# Altium footprint library FE2.PcbLib: 11 footprints
Each footprint in its own frame and in the unit in brackets; x right, y up, seen from the top. Pads: shape width x height; smd on the part's side, far side on the other; paste and mask are expansions set on the pad; w line width, h text height; cw(c..) or ccw(c..) is an arc to the next point about the centre after c.
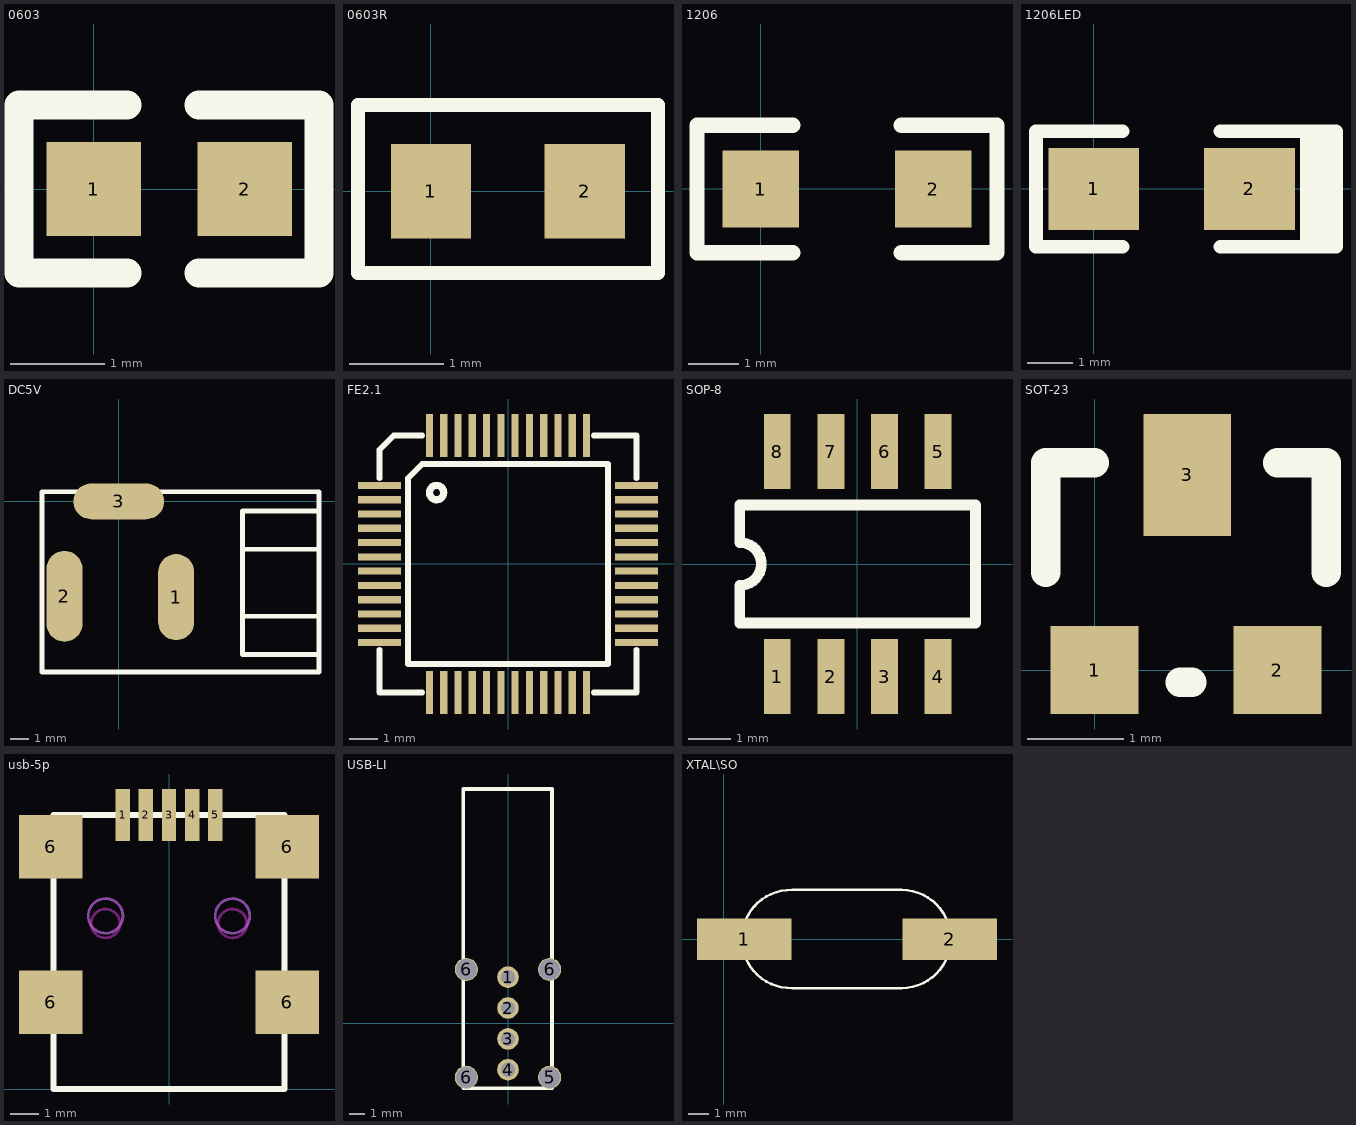
[diagram p0: the footprints below, top view; thin cyan lines are the x and y axes]

## 0603 [mm]
pads (2):
  rect 1x1 smd: 1(0,0) 2(1.6,0)
Top Overlay:
  lines w0.305: 0.354,-0.889 -0.789,-0.889 -0.789,0.889 0.354,0.889 ; 1.116,-0.889 2.386,-0.889 2.386,0.889 1.116,0.889

## 0603R [mm]
pads (2):
  rect 0.85x1 smd: 1(0,0) 2(1.628,0)
Top Overlay:
  lines w0.15: -0.772,-0.867 -0.772,0.911 1.133,0.911 2.403,0.911 2.403,-0.867 1.133,-0.867 -0.772,-0.867

## 1206 [mil]
pads (2):
  rect 60x60 smd: 1(0.23,-0.26) 2(135.23,-0.26)
Top Overlay:
  lines w12: 25.23,-50.26 -49.77,-50.26 -49.77,49.74 25.23,49.74 ; 110.23,-50.26 185.23,-50.26 185.23,49.74 110.23,49.74

## 1206LED [mm]
pads (2):
  rect 2x1.8 smd: 1(0,0) 2(3.429,0)
Top Overlay:
  lines w0.254: 4.699,-1.27 5.334,-1.27 5.334,1.27 4.699,1.27
  lines w0.305: 0.635,-1.27 -1.27,-1.27 -1.27,1.27 0.635,1.27 ; 2.794,-1.27 4.699,-1.27 4.699,1.27 2.794,1.27 ; 3.81,1.27 5.334,1.27 5.334,-1.27 4.572,-1.27 ; 4.826,-1.27 4.826,1.27 ; 5.08,-1.27 5.08,1.27

## DC5V [mil]
pads (3):
  oval 75x180 all layers, no hole: 1(120.31,-200.03)
  oval 75x190 all layers, no hole: 2(-113.02,-198.37)
  oval 190x75 all layers, no hole: 3(0.31,-0.03)
Top Overlay:
  lines w10: -101.35,-356.7 418.65,-356.7 ; 258.65,-240.03 418.65,-240.03 ; 258.65,-100.03 418.65,-100.03 ; 418.65,-320.03 258.65,-320.03 258.65,-20.03 418.65,-20.03 ; 418.65,-356.7 418.65,19.97 -159.69,19.97 -159.69,-356.7 418.65,-356.7
Keep-Out Layer:
  lines w10: -133.02,-258.37 -93.02,-258.37 -93.02,-138.37 -133.02,-138.37 -133.02,-258.37 ; -59.69,-20.03 -59.69,19.97 60.31,19.97 60.31,-20.03 -59.69,-20.03 ; 101.98,-258.37 141.98,-258.37 141.98,-138.37 101.98,-138.37 101.98,-258.37

## FE2.1 [mm]
pads (48):
  rect 1.5x0.25 smd: 1(-4.501,2.739) 2(-4.501,2.239) 3(-4.501,1.739) 4(-4.501,1.239) 5(-4.501,0.739) 6(-4.501,0.239) 7(-4.501,-0.261) 8(-4.501,-0.761) 9(-4.501,-1.261) 10(-4.501,-1.761) 11(-4.501,-2.261) 12(-4.501,-2.761) 25(4.499,-2.761) 26(4.499,-2.261) 27(4.499,-1.761) 28(4.499,-1.261) 29(4.499,-0.761) 30(4.499,-0.261) 31(4.499,0.239) 32(4.499,0.739) 33(4.499,1.239) 34(4.499,1.739) 35(4.499,2.239) 36(4.499,2.739)
  rect 0.25x1.5 smd: 13(-2.751,-4.511) 14(-2.251,-4.511) 15(-1.751,-4.511) 16(-1.251,-4.511) 17(-0.751,-4.511) 18(-0.251,-4.511) 19(0.249,-4.511) 20(0.749,-4.511) 21(1.249,-4.511) 22(1.749,-4.511) 23(2.249,-4.511) 24(2.749,-4.511) 37(2.749,4.489) 38(2.249,4.489) 39(1.749,4.489) 40(1.249,4.489) 41(0.749,4.489) 42(0.249,4.489) 43(-0.251,4.489) 44(-0.751,4.489) 45(-1.251,4.489) 46(-1.751,4.489) 47(-2.251,4.489) 48(-2.751,4.489)
Top Overlay:
  circle w0.254: c-2.501,2.489 r0.25
  lines w0.203: -4.501,-3.011 -4.501,-4.511 -3.001,-4.511 ; -4.501,2.989 -4.501,3.989 -4.001,4.489 -3.001,4.489 ; 2.999,-4.511 4.499,-4.511 4.499,-3.011 ; 2.999,4.489 4.499,4.489 4.499,2.989 ; -3.501,-3.511 3.499,-3.511 3.499,3.489 -2.501,3.489 -3.001,3.489 -3.501,2.989 -3.501,2.489 -3.501,-3.511

## SOP-8 [mil]
pads (8):
  rect 25x70 smd: 1(-74.59,-104.97) 2(-24.59,-104.97) 3(25.41,-104.97) 4(75.41,-104.97) 5(75.41,105.03) 6(25.41,105.03) 7(-24.59,105.03) 8(-74.59,105.03)
Top Overlay:
  lines w10: -109.59,-54.97 110.41,-54.97 110.41,55.03 -109.59,55.03 -109.59,20.03 cw(c-109.59,0.03) -109.59,-19.97 -109.59,-54.97

## SOT-23 [mil]
pads (3):
  rect 36x36 smd: 1(0,0) 2(75,0)
  rect 36x50 smd: 3(38,80)
Top Overlay:
  lines w12: -20,40 -20,85 0,85 ; 35,-5 40,-5 ; 75,85 95,85 95,40

## usb-5p [mm]
pads (9):
  rect 0.5x1.8 smd: 1(-1.6,9.5) 2(-0.8,9.5) 3(0,9.5) 4(0.8,9.5) 5(1.6,9.5)
  rect 2.2x2.2 smd: 6(-4.1,3) 6(-4.1,8.4) 6(4.1,3) 6(4.1,8.4)
Top Overlay:
  lines w0.2: -4,0 4,0 4,9.5 -4,9.5 -4,0
Keep-Out Layer:
  circle w0.1: c-2.2,5.738 r0.5
  circle w0.1: c2.2,5.738 r0.5
Mechanical 1:
  circle w0.1: c2.2,6 r0.6
  circle w0.1: c-2.2,6 r0.6

## USB-LI [mm]
pads (8):
  round 1.4 hole 0.92: 1(0,3) 2(0,1) 3(0,-1) 4(0,-3)
  round 1.5 hole 1.35: 5(2.7,-3.5) 6(-2.7,-3.5) 6(-2.7,3.5) 6(2.7,3.5)
Top Overlay:
  lines w0.254: -2.9,-4.2 -2.9,15.2 ; -2.85,-4.2 2.85,-4.2 2.85,15.2 -2.85,15.2

## XTAL\SO [mm]
pads (2):
  rect 4.6x2 smd: 1(1.009,0.001) 2(11.009,0.001)
Top Overlay:
  lines w0.127: 3.336,2.401 ccw(c3.273,0.013) 3.34,-2.374 ; 3.336,2.401 ccw(c3.273,0.013) 3.34,-2.374 ; 3.336,2.401 ccw(c3.273,0.013) 3.34,-2.374 ; 3.336,2.401 ccw(c3.273,0.013) 3.34,-2.374 ; 3.336,2.401 ccw(c3.273,0.013) 3.34,-2.374 ; 3.336,2.401 ccw(c3.273,0.013) 3.34,-2.374 ; 3.336,2.401 ccw(c3.273,0.013) 3.34,-2.374 ; 3.336,2.401 ccw(c3.273,0.013) 3.34,-2.374 ; 3.336,2.401 ccw(c3.273,0.013) 3.34,-2.374 ; 3.336,2.401 ccw(c3.273,0.013) 3.34,-2.374 ; 3.336,2.401 ccw(c3.273,0.013) 3.34,-2.374 ; 3.336,2.401 ccw(c3.273,0.013) 3.34,-2.374 ; 3.336,2.401 ccw(c3.273,0.013) 3.34,-2.374 ; 3.336,2.401 ccw(c3.273,0.013) 3.34,-2.374 ; 3.336,2.401 ccw(c3.273,0.013) 3.34,-2.374 ; 3.336,2.401 ccw(c3.273,0.013) 3.34,-2.374 ; 3.336,2.401 ccw(c3.273,0.013) 3.34,-2.374 ; 3.336,2.401 ccw(c3.273,0.013) 3.34,-2.374 ; 3.336,2.401 ccw(c3.273,0.013) 3.34,-2.374 ; 3.336,2.401 ccw(c3.273,0.013) 3.34,-2.374 ; 3.336,2.401 ccw(c3.273,0.013) 3.34,-2.374 ; 3.336,2.401 ccw(c3.273,0.013) 3.34,-2.374 ; 3.336,2.401 ccw(c3.273,0.013) 3.34,-2.374 ; 3.336,2.401 ccw(c3.273,0.013) 3.34,-2.374 ; 3.336,2.401 ccw(c3.273,0.013) 3.34,-2.374 ; 3.336,2.401 ccw(c3.273,0.013) 3.34,-2.374 ; 3.336,2.401 ccw(c3.273,0.013) 3.34,-2.374 ; 3.336,2.401 ccw(c3.273,0.013) 3.34,-2.374 ; 3.336,2.401 ccw(c3.273,0.013) 3.34,-2.374 ; 3.336,2.401 ccw(c3.273,0.013) 3.34,-2.374 ; 3.336,2.401 ccw(c3.273,0.013) 3.34,-2.374 ; 3.336,2.401 ccw(c3.273,0.013) 3.34,-2.374 ; 3.338,-2.374 8.672,-2.374 ; 3.338,-2.374 8.672,-2.374 ; 3.338,-2.374 8.672,-2.374 ; 3.338,-2.374 8.672,-2.374 ; 3.338,-2.374 8.672,-2.374 ; 3.338,-2.374 8.672,-2.374 ; 3.338,-2.374 8.672,-2.374 ; 3.338,-2.374 8.672,-2.374 ; 3.338,-2.374 8.672,-2.374 ; 3.338,-2.374 8.672,-2.374 ; 3.338,-2.374 8.672,-2.374 ; 3.338,-2.374 8.672,-2.374 ; 3.338,-2.374 8.672,-2.374 ; 3.338,-2.374 8.672,-2.374 ; 3.338,-2.374 8.672,-2.374 ; 3.338,-2.374 8.672,-2.374 ; 3.338,-2.374 8.672,-2.374 ; 3.338,-2.374 8.672,-2.374 ; 3.338,-2.374 8.672,-2.374 ; 3.338,-2.374 8.672,-2.374 ; 3.338,-2.374 8.672,-2.374 ; 3.338,-2.374 8.672,-2.374 ; 3.338,-2.374 8.672,-2.374 ; 3.338,-2.374 8.672,-2.374 ; 3.338,-2.374 8.672,-2.374 ; 3.338,-2.374 8.672,-2.374 ; 3.338,-2.374 8.672,-2.374 ; 3.338,-2.374 8.672,-2.374 ; 3.338,-2.374 8.672,-2.374 ; 3.338,-2.374 8.672,-2.374 ; 3.338,-2.374 8.672,-2.374 ; 3.338,-2.374 8.672,-2.374 ; 3.338,2.401 8.672,2.401 ; 3.338,2.401 8.672,2.401 ; 3.338,2.401 8.672,2.401 ; 3.338,2.401 8.672,2.401 ; 3.338,2.401 8.672,2.401 ; 3.338,2.401 8.672,2.401 ; 3.338,2.401 8.672,2.401 ; 3.338,2.401 8.672,2.401 ; 3.338,2.401 8.672,2.401 ; 3.338,2.401 8.672,2.401 ; 3.338,2.401 8.672,2.401 ; 3.338,2.401 8.672,2.401 ; 3.338,2.401 8.672,2.401 ; 3.338,2.401 8.672,2.401 ; 3.338,2.401 8.672,2.401 ; 3.338,2.401 8.672,2.401 ; 3.338,2.401 8.672,2.401 ; 3.338,2.401 8.672,2.401 ; 3.338,2.401 8.672,2.401 ; 3.338,2.401 8.672,2.401 ; 3.338,2.401 8.672,2.401 ; 3.338,2.401 8.672,2.401 ; 3.338,2.401 8.672,2.401 ; 3.338,2.401 8.672,2.401 ; 3.338,2.401 8.672,2.401 ; 3.338,2.401 8.672,2.401 ; 3.338,2.401 8.672,2.401 ; 3.338,2.401 8.672,2.401 ; 3.338,2.401 8.672,2.401 ; 3.338,2.401 8.672,2.401 ; 3.338,2.401 8.672,2.401 ; 3.338,2.401 8.672,2.401 ; 8.672,-2.374 ccw(c8.672,0.013) 8.672,2.401 ; 8.672,-2.374 ccw(c8.672,0.013) 8.672,2.401 ; 8.672,-2.374 ccw(c8.672,0.013) 8.672,2.401 ; 8.672,-2.374 ccw(c8.672,0.013) 8.672,2.401 ; 8.672,-2.374 ccw(c8.672,0.013) 8.672,2.401 ; 8.672,-2.374 ccw(c8.672,0.013) 8.672,2.401 ; 8.672,-2.374 ccw(c8.672,0.013) 8.672,2.401 ; 8.672,-2.374 ccw(c8.672,0.013) 8.672,2.401 ; 8.672,-2.374 ccw(c8.672,0.013) 8.672,2.401 ; 8.672,-2.374 ccw(c8.672,0.013) 8.672,2.401 ; 8.672,-2.374 ccw(c8.672,0.013) 8.672,2.401 ; 8.672,-2.374 ccw(c8.672,0.013) 8.672,2.401 ; 8.672,-2.374 ccw(c8.672,0.013) 8.672,2.401 ; 8.672,-2.374 ccw(c8.672,0.013) 8.672,2.401 ; 8.672,-2.374 ccw(c8.672,0.013) 8.672,2.401 ; 8.672,-2.374 ccw(c8.672,0.013) 8.672,2.401 ; 8.672,-2.374 ccw(c8.672,0.013) 8.672,2.401 ; 8.672,-2.374 ccw(c8.672,0.013) 8.672,2.401 ; 8.672,-2.374 ccw(c8.672,0.013) 8.672,2.401 ; 8.672,-2.374 ccw(c8.672,0.013) 8.672,2.401 ; 8.672,-2.374 ccw(c8.672,0.013) 8.672,2.401 ; 8.672,-2.374 ccw(c8.672,0.013) 8.672,2.401 ; 8.672,-2.374 ccw(c8.672,0.013) 8.672,2.401 ; 8.672,-2.374 ccw(c8.672,0.013) 8.672,2.401 ; 8.672,-2.374 ccw(c8.672,0.013) 8.672,2.401 ; 8.672,-2.374 ccw(c8.672,0.013) 8.672,2.401 ; 8.672,-2.374 ccw(c8.672,0.013) 8.672,2.401 ; 8.672,-2.374 ccw(c8.672,0.013) 8.672,2.401 ; 8.672,-2.374 ccw(c8.672,0.013) 8.672,2.401 ; 8.672,-2.374 ccw(c8.672,0.013) 8.672,2.401 ; 8.672,-2.374 ccw(c8.672,0.013) 8.672,2.401 ; 8.672,-2.374 ccw(c8.672,0.013) 8.672,2.401